# Altium footprint library Footprint.PcbLib: 155 footprints (part 3 of 10)
Each footprint in its own frame and in the unit in brackets; x right, y up, seen from the top. Pads: shape width x height; smd on the part's side, far side on the other; paste and mask are expansions set on the pad; w line width, h text height; cw(c..) or ccw(c..) is an arc to the next point about the centre after c.
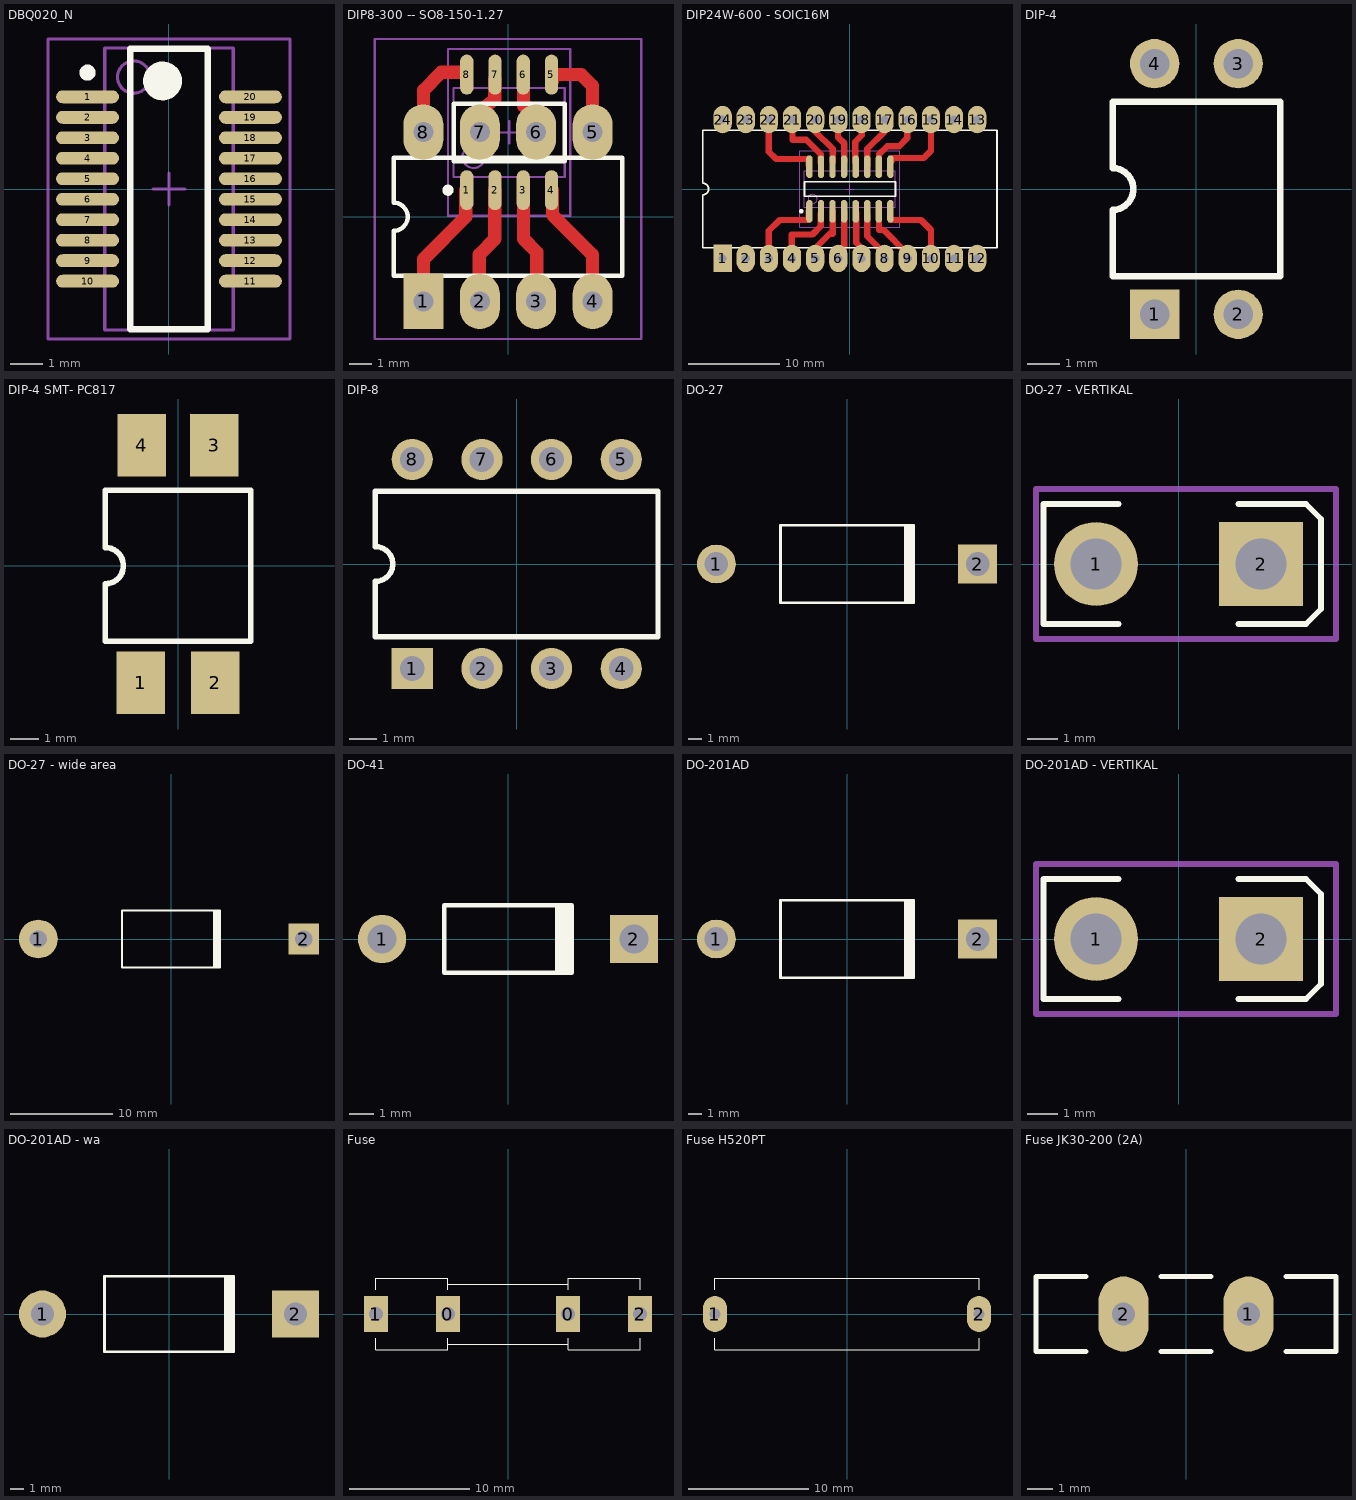
[diagram p2: the footprints below, top view; thin cyan lines are the x and y axes]

## DBQ020_N [mm] "SOP, 20-Leads, Body 8.7x3.9mm, Pitch 0.635mm, IPC Medium Density"
height 1.75
pads (20):
  oval 1.95x0.4 smd: 1(-2.525,2.857) 2(-2.525,2.222) 3(-2.525,1.587) 4(-2.525,0.953) 5(-2.525,0.318) 6(-2.525,-0.318) 7(-2.525,-0.953) 8(-2.525,-1.587) 9(-2.525,-2.222) 10(-2.525,-2.857) 11(2.525,-2.857) 12(2.525,-2.222) 13(2.525,-1.587) 14(2.525,-0.953) 15(2.525,-0.318) 16(2.525,0.318) 17(2.525,0.953) 18(2.525,1.587) 19(2.525,2.222) 20(2.525,2.857)
Top Overlay:
  circle w0.25: c-2.525,3.608 r0.125
  circle w0.6: c-0.2,3.35 r0.3
  lines w0.2: -1.2,-4.35 -1.2,4.35 1.2,4.35 1.2,-4.35 -1.2,-4.35
Mechanical 13:
  circle w0.1: c-1.095,3.47 r0.5
  lines w0.1: -1.995,-4.37 -1.995,4.37 1.995,4.37 1.995,-4.37 -1.995,-4.37
Mechanical 15:
  lines w0.1: -0.5,0 0.5,0 ; 0,-0.5 0,0.5 ; -3.75,-4.65 -3.75,4.65 3.75,4.65 3.75,-4.65 -3.75,-4.65
3D body: height 1.75, standoff 0, extent -1.995,-4.37 1.995,4.37

## DIP8-300 -- SO8-150-1.27 [mm] "DIP; 8 Leads; Row Spacing 7.62 mm; Pitch 2.54 mm, OIC, 8-Leads, Body 4.9x3.9mm, Pitch 1.27mm, IPC Medium Density"
height 5.08
pads (16):
  rect 1.8x2.5 hole 0.9: 1(-3.81,-3.81)
  oval 0.6x1.8 smd: 1(-1.853,1.196) 2(-0.583,1.196) 3(0.687,1.196) 4(1.957,1.196) 5(1.957,6.396) 6(0.687,6.396) 7(-0.583,6.396) 8(-1.853,6.396)
  oval 1.8x2.5 hole 0.9: 2(-1.27,-3.81) 3(1.27,-3.81) 4(3.81,-3.81) 5(3.81,3.81) 6(1.27,3.81) 7(-1.27,3.81) 8(-3.81,3.81)
Top Layer:
  lines w0.6: -3.8,-3.8 -3.8,-1.9 -1.9,0 -1.9,1.2 ; -3.8,3.8 -3.8,5.7 -3,6.5 -1.9,6.5 ; -1.3,-3.8 -1.3,-1.7 -0.6,-1 -0.6,1.2 ; -1.2,3.8 -1.2,4.8 -0.6,5.3 -0.6,6.2 ; 0.7,1.1 0.7,-1 1.3,-1.6 1.3,-3.8 ; 0.7,6.3 0.7,5 1.2,4.8 1.2,3.8 ; 2,1.2 2,0.1 3.8,-1.7 3.8,-3.7 ; 2,6.1 2,6.4 3.3,6.4 3.8,5.9 3.8,3.8
Top Overlay:
  circle w0.6: c-1.448,3.496 r0.3
  circle w0.25: c-2.703,1.196 r0.125
  lines w0.2: -5.15,-2.65 -5.15,-0.635 ccw(c-5.15,0) -5.15,0.635 -5.15,2.65 5.15,2.65 5.15,-2.65 -5.15,-2.65 ; -2.448,2.496 -2.448,5.096 2.552,5.096 2.552,2.496 -2.448,2.496
Mechanical 13:
  circle w0.1: c-1.548,2.696 r0.5
  lines w0.1: -2.448,1.796 -2.448,5.796 2.552,5.796 2.552,1.796 -2.448,1.796
Mechanical 15:
  lines w0.1: -0.448,3.796 0.552,3.796 ; 0.052,3.296 0.052,4.296 ; -6,-5.5 -6,8 6,8 6,-5.5 -6,-5.5 ; -2.698,0.046 -2.698,7.546 2.802,7.546 2.802,0.046 -2.698,0.046
3D body: height 2.59, standoff 0, extent -2.448,1.796 2.552,5.796

## DIP24W-600 - SOIC16M [mm] "DIP; 24 Leads; Row Spacing 15.24 mm; Pitch 2.54 mm"
height 5.15
pads (40):
  oval 0.7x2.5 smd: 0(-4.445,-2.45) 0(-4.445,2.45) 0(-3.175,-2.45) 0(-3.175,2.45) 0(-1.905,-2.45) 0(-1.905,2.45) 0(-0.635,-2.45) 0(-0.635,2.45) 0(0.635,-2.45) 0(0.635,2.45) 0(1.905,-2.45) 0(1.905,2.45) 0(3.175,-2.45) 0(3.175,2.45) 0(4.445,-2.45) 0(4.445,2.45)
  rect 2x3 hole 0.9: 1(-13.97,-7.62)
  oval 2x3 hole 0.9: 2(-11.43,-7.62) 3(-8.89,-7.62) 4(-6.35,-7.62) 5(-3.81,-7.62) 6(-1.27,-7.62) 7(1.27,-7.62) 8(3.81,-7.62) 9(6.35,-7.62) 10(8.89,-7.62) 11(11.43,-7.62) 12(13.97,-7.62) 13(13.97,7.62) 14(11.43,7.62) 15(8.89,7.62) 16(6.35,7.62) 17(3.81,7.62) 18(1.27,7.62) 19(-1.27,7.62) 20(-3.81,7.62) 21(-6.35,7.62) 22(-8.89,7.62) 23(-11.43,7.62) 24(-13.97,7.62)
Top Layer:
  lines w0.7: -8.9,-7.6 -8.9,-4.6 -7.7,-3.4 -4.5,-3.4 -4.5,-2.4 ; -8.9,7.6 -8.9,4.1 -8.1,3.3 -4.6,3.3 -4.5,3.2 -4.5,2.6 ; -6.4,-7.6 -6.4,-5 -4.1,-5 -3.2,-4.1 -3.2,-2.7 ; -6.3,7.6 -6.3,5.4 -4.8,5.4 -3.2,3.8 -3.2,2.9 ; -3.8,-7.6 -3.8,-6.5 -2.2,-4.9 -1.9,-4.9 -1.9,-2.4 ; -3.8,7.6 -3.8,6.3 -1.9,4.4 -1.9,3 ; -1.3,-7.6 -0.6,-6.3 -0.6,-2.6 ; -1.3,7.6 -1.3,5.7 -0.6,5 -0.6,3 ; 0.6,3 0.6,5.2 1.3,5.9 1.3,7.6 ; 0.7,-2.6 0.7,-5.9 1.2,-6.4 1.2,-7.6 1.3,-7.7 ; 1.9,-2.9 1.9,-4.9 1.9,-5.2 3.8,-7.1 3.8,-7.6 ; 1.9,2.6 1.9,4.4 3.8,6.3 3.8,7.4 ; 3.2,-3 3.2,-4.5 3.7,-4.5 6.3,-7.1 6.3,-7.6 ; 3.2,3 3.2,3.8 4.1,4.7 5.4,4.7 6.3,5.6 6.3,7 6.3,7.5 ; 4.5,-3.4 7.8,-3.4 8.9,-4.5 8.9,-7.6 ; 4.6,3.1 4.6,3.4 8.1,3.4 8.9,4.2 8.9,7.6
Top Overlay:
  circle w0.25: c-5.345,-2.45 r0.125
  lines w0.2: -16.15,-6.45 16.15,-6.45 16.15,6.45 -16.15,6.45 -16.15,0.635 cw(c-16.15,0) -16.15,-0.635 -16.15,-6.45 ; -5,-0.8 5,-0.8 5,0.8 -5,0.8 -5,-0.8
Mechanical 13:
  circle w0.1: c-4.1,-1.1 r0.5
  lines w0.1: -5,-2 5,-2 5,2 -5,2 -5,-2
Mechanical 15:
  lines w0.1: -0.5,0 0.5,0 ; 0,-0.5 0,0.5 ; -5.5,-4.2 5.5,-4.2 5.5,4.2 -5.5,4.2 -5.5,-4.2
3D body: height 1.75, standoff 0, extent -5,-2 5,2

## DIP-4 [mm] "DIP; 4 Leads; Row Spacing 7.62 mm; Pitch 2.54 mm"
height 5.6
pads (4):
  rect 1.5x1.5 hole 0.9: 1(-1.27,-3.81)
  round 1.5 hole 0.9: 2(1.27,-3.81) 3(1.27,3.81) 4(-1.27,3.81)
Top Overlay:
  lines w0.2: -2.55,-2.65 2.55,-2.65 2.55,2.65 -2.55,2.65 -2.55,0.635 cw(c-2.55,0) -2.55,-0.635 -2.55,-2.65

## DIP-4 SMT- PC817 [mm] "DIP; 4 Leads; Row Spacing 8.2 mm; Pitch 2.54 mm"
height 5.6
pads (4):
  rect 1.7x2.2 smd: 1(-1.3,-4.1) 2(1.3,-4.1) 3(1.272,4.22) 4(-1.272,4.22)
Top Overlay:
  lines w0.2: -2.55,-2.65 2.55,-2.65 2.55,2.65 -2.55,2.65 -2.55,0.635 cw(c-2.55,0) -2.55,-0.635 -2.55,-2.65

## DIP-8 [mm] "DIP; 8 Leads; Row Spacing 7.62 mm; Pitch 2.54 mm"
height 5.08
pads (8):
  rect 1.5x1.5 hole 0.9: 1(-3.81,-3.81)
  round 1.5 hole 0.9: 2(-1.27,-3.81) 3(1.27,-3.81) 4(3.81,-3.81) 5(3.81,3.81) 6(1.27,3.81) 7(-1.27,3.81) 8(-3.81,3.81)
Top Overlay:
  lines w0.2: -5.15,-2.65 -5.15,-0.635 ccw(c-5.15,0) -5.15,0.635 -5.15,2.65 5.15,2.65 5.15,-2.65 -5.15,-2.65

## DO-27 [mm] "Diode, Axial; Body 9.5 x 5.6 mm (LxDia. max), Lead Dia. 1.32 mm (max)"
height 5.6
pads (2):
  round 2.8 hole 1.7: 1(-9.42,0)
  rect 2.8x2.8 hole 1.7: 2(9.42,0)
Top Overlay:
  rectangle: 4.1,-2.8 4.9,2.8
  lines w0.2: 4.8,-2.8 -4.8,-2.8 -4.8,2.8 4.8,2.8

## DO-27 - VERTIKAL [mm] "Diode, Axial; Body 9.5 x 5.6 mm (LxDia. max), Lead Dia. 1.32 mm (max)"
height 5.6
pads (2):
  round 2.8 hole 1.7: 1(-2.75,0)
  rect 2.8x2.8 hole 1.7: 2(2.75,0)
Top Overlay:
  lines w0.2: -2,-2 -4.5,-2 -4.5,2 -2,2 ; 2,-2 4.25,-2 4.75,-1.5 4.75,1.5 4.25,2 2,2
Mechanical 15:
  lines w0.2: -4.75,-2.5 -4.75,2.5 5.25,2.5 5.25,-2.5 -4.75,-2.5

## DO-27 - wide area [mm] "Diode, Axial; Body 9.5 x 5.6 mm x 26 mm (LxDia. max), Lead Dia. 1.32 mm (max)"
height 5.6
pads (2):
  round 3.8 hole 1.7: 1(-13,0)
  rect 3x3 hole 1.7: 2(13,0)
Top Overlay:
  rectangle: 4.1,-2.8 4.9,2.8
  lines w0.2: 4.8,-2.8 -4.8,-2.8 -4.8,2.8 4.8,2.8

## DO-41 [mm] "Diode, Axial; Body 5.2 x 2.7 mm (LxDia. max), Lead Dia. 0.86 mm (max)"
height 2.8
pads (2):
  round 2 hole 1.2: 1(-5.23,0)
  rect 2x2 hole 1.2: 2(5.23,0)
Top Overlay:
  rectangle: 1.95,-1.4 2.75,1.4
  lines w0.2: 2.65,-1.4 -2.65,-1.4 -2.65,1.4 2.65,1.4

## DO-201AD [mm] "Diode, Axial; Body 9.5 x 5.6 mm (LxDia. max), Lead Dia. 1.32 mm (max)"
height 5.6
pads (2):
  round 2.8 hole 1.7: 1(-9.42,0)
  rect 2.8x2.8 hole 1.7: 2(9.42,0)
Top Overlay:
  rectangle: 4.1,-2.8 4.9,2.8
  lines w0.2: 4.8,-2.8 -4.8,-2.8 -4.8,2.8 4.8,2.8

## DO-201AD - VERTIKAL [mm] "Diode, Axial; Body 9.5 x 5.6 mm (LxDia. max), Lead Dia. 1.32 mm (max)"
height 5.6
pads (2):
  round 2.8 hole 1.7: 1(-2.75,0)
  rect 2.8x2.8 hole 1.7: 2(2.75,0)
Top Overlay:
  lines w0.2: -2,-2 -4.5,-2 -4.5,2 -2,2 ; 2,-2 4.25,-2 4.75,-1.5 4.75,1.5 4.25,2 2,2
Mechanical 15:
  lines w0.2: -4.75,-2.5 5.25,-2.5 5.25,2.5 -4.75,2.5 -4.75,-2.5

## DO-201AD - wa [mm] "Diode, Axial; Body 9.5 x 5.6 mm (LxDia. max), Lead Dia. 1.32 mm (max)"
height 5.6
pads (2):
  round 3.5 hole 1.7: 1(-9.42,0)
  rect 3.5x3.5 hole 1.7: 2(9.42,0)
Top Overlay:
  rectangle: 4.1,-2.8 4.9,2.8
  lines w0.2: 4.8,-2.8 -4.8,-2.8 -4.8,2.8 4.8,2.8

## Fuse [mm] "5x20 mm"
height 5
pads (4):
  rect 2x3 hole 1.2: 0(-5,0) 0(5,0) 1(-11,0) 2(11,0)
Top Overlay:
  lines w0.1: -11,-2 -11,-3 -5,-3 -5,-2 ; -11,2 -11,3 -5,3 -5,2 ; -5,-2.5 5,-2.5 ; -5,2.5 5,2.5 ; 5,-2 5,-3 11,-3 11,-2 ; 5,2 5,3 11,3 11,2

## Fuse H520PT [mm] "5x20 mm"
height 5
pads (2):
  oval 2x3 hole 0.9: 1(-11,0) 2(11,0)
Top Overlay:
  lines w0.1: -11,-2 -11,-3 -5,-3 5,-3 11,-3 11,-2 ; -11,2 -11,3 -5,3 5,3 11,3 11,2

## Fuse JK30-200 (2A) [mm] "Самовосстанавливающийся предохранитель 2A"
pads (2):
  oval 2x3 hole 0.9: 1(2.5,0) 2(-2.5,0)
Top Overlay:
  lines w0.2: -4,-1.5 -6,-1.5 -6,1.5 -4,1.5 ; -1,-1.5 1,-1.5 ; -1,1.5 1,1.5 ; 4,-1.5 6,-1.5 6,1.5 4,1.5